# EAGLE library part ATTINY85-20MUR (library ATTINY85-20MUR)
AVR AVR® ATtiny Microcontroller IC 8-Bit 20MHz 8KB (4K x 16) FLASH 20-QFN-EP (4x4) Check availability <https://pricing.snapeda.com/parts/ATTINY85-20MUR/Microchip%20Technology/view-part?ref=eda>
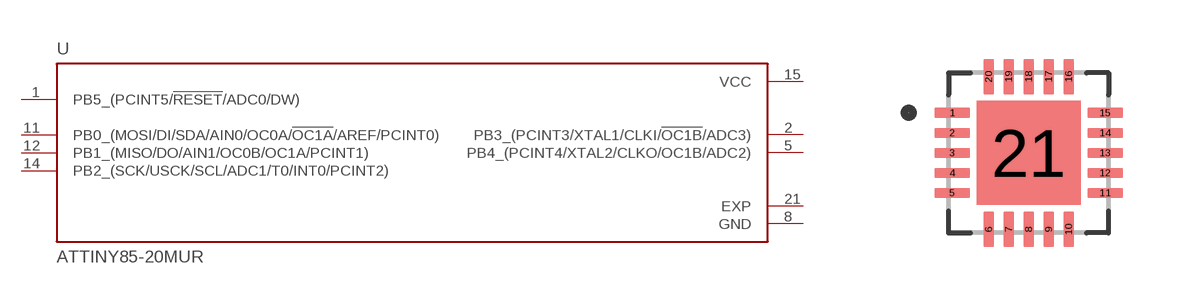
[diagram p0: symbol with the pads of QFN50P400X400X80-21N; footprint QFN50P400X400X80-21N]

Designator prefix U

## ATTINY85-20MUR (Availability: In Stock; Description: AVR AVR® ATtiny, Functional Safety (FuSa) Microcontroller IC 8-Bit 20MHz 8KB (4K x 16) FLASH 20-QFN-EP (4x4); MF: Microchip Technology; MP: ATTINY85-20MUR; Package: QFN-20 Microchip; Price: None; Purchase-URL: https://pricing.snapeda.com/search/part/ATTINY85-20MUR/?ref=eda)  [QFN50P400X400X80-21N]
1  PB5_(PCINT5/!RESET!/ADC0/DW)
2  PB3_(PCINT3/XTAL1/CLKI/!OC1B!/ADC3)
5  PB4_(PCINT4/XTAL2/CLKO/OC1B/ADC2)
8  GND  pwr
11  PB0_(MOSI/DI/SDA/AIN0/OC0A/!OC1A!/AREF/PCINT0)
12  PB1_(MISO/DO/AIN1/OC0B/OC1A/PCINT1)
14  PB2_(SCK/USCK/SCL/ADC1/T0/INT0/PCINT2)
15  VCC  pwr
21  EXP  pwr

## Footprint QFN50P400X400X80-21N (pad centres in mm)
smd 0.89 x 0.26: 1 -1.91,1; 2 -1.91,0.5; 3 -1.91,0; 4 -1.91,-0.5; 5 -1.91,-1; 11 1.91,-1; 12 1.91,-0.5; 13 1.91,0; 14 1.91,0.5; 15 1.91,1
smd 0.26 x 0.89: 6 -1,-1.91; 7 -0.5,-1.91; 8 0,-1.91; 9 0.5,-1.91; 10 1,-1.91; 16 1,1.91; 17 0.5,1.91; 18 0,1.91; 19 -0.5,1.91; 20 -1,1.91
smd 2.6 x 2.6: 21 0,0